# Altium schematic symbol library TS30012-M050QFNR.SchLib: 1 symbol
Pins are listed as number, name and electrical type; pins without a type are passive.

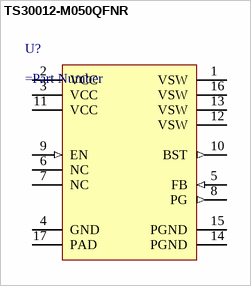
[diagram p0: symbol TS30012-M050QFNR]

## TS30012-M050QFNR
designator U?
=Description
pins: 1 VSW, 2 VCC (power), 3 VCC (power), 4 GND (power), 5 FB (in), 6 NC, 7 NC, 8 PG (out), 9 EN (in), 10 BST (out), 11 VCC (power), 12 VSW, 13 VSW, 14 PGND (power), 15 PGND (power), 16 VSW, 17 PAD